# Altium schematic symbol library MCU_SiliconLabs.SchLib: 37 symbols
Pins are listed as number, name and electrical type; pins without a type are passive.

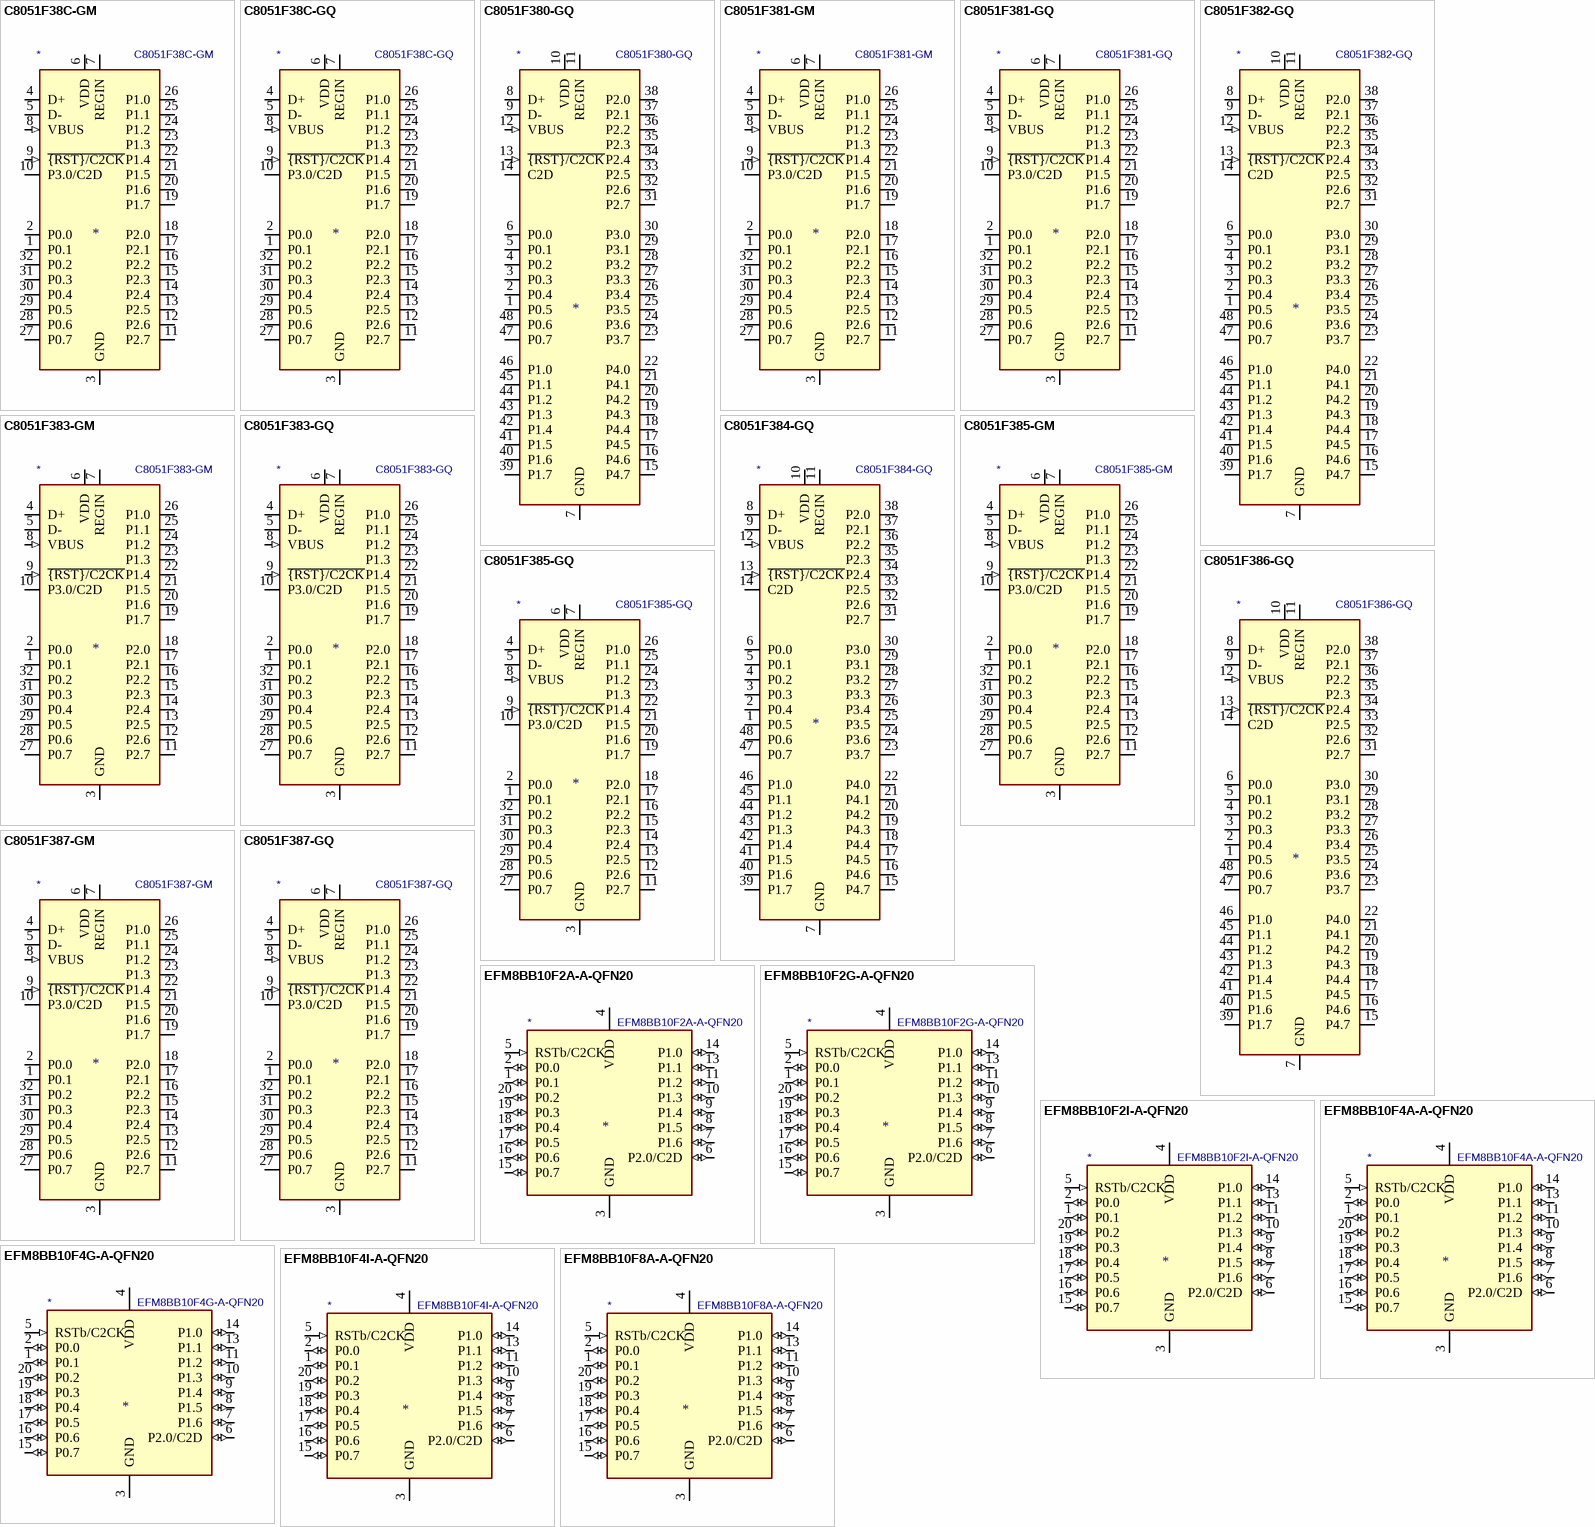
[diagram p0: symbols C8051F38C-GM to EFM8BB10F8A-A-QFN20]

## C8051F38C-GM
designator *  value C8051F38C-GM
ki_keywords: 8051 microcontroller PCA UART USB SPI I2C ADC QFN32; ki_description: Full Speed USB Flash MCU Family, 16k flash, 2304 ram, 25 IO, ADC, Temperature, VREF, QFN-32; ki_fp_filters: QFN*1EP*5x5mm*P0.5mm*; Footprint: Package_DFN_QFN:QFN-32-1EP_5x5mm_P0.5mm_EP3.3x3.3mm; Supplier: https://www.silabs.com/documents/public/data-sheets/C8051F38x.pdf
footprint QFN-32-1EP_5x5mm_P0.5mm_EP3.3x3.3mm
pins: 1 P0.1 (io), 2 P0.0 (io), 3 GND (power), 4 D+ (io), 5 D- (io), 6 VDD (power), 7 REGIN (power), 8 VBUS (in), 9 ~{{RST}/C2CK} (in), 10 P3.0/C2D (io), 11 P2.7 (io), 12 P2.6 (io), 13 P2.5 (io), 14 P2.4 (io), 15 P2.3 (io), 16 P2.2 (io), 17 P2.1 (io), 18 P2.0 (io), 19 P1.7 (io), 20 P1.6 (io), 21 P1.5 (io), 22 P1.4 (io), 23 P1.3 (io), 24 P1.2 (io), 25 P1.1 (io), 26 P1.0 (io), 27 P0.7 (io), 28 P0.6 (io), 29 P0.5 (io), 30 P0.4 (io), 31 P0.3 (io), 32 P0.2 (io), 33 GND hidden

## C8051F38C-GQ
designator *  value C8051F38C-GQ
ki_keywords: 8051 microcontroller PCA UART USB SPI I2C ADC LQFP32; ki_description: Full Speed USB Flash MCU Family, 16k flash, 2304 ram, 25 IO, ADC, Temperature, VREF, LQFP-32; ki_fp_filters: LQFP*7x7mm*P0.8mm*; Footprint: Package_QFP:LQFP-32_7x7mm_P0.8mm; Supplier: https://www.silabs.com/documents/public/data-sheets/C8051F38x.pdf
footprint LQFP-32_7x7mm_P0.8mm
pins: 1 P0.1 (io), 2 P0.0 (io), 3 GND (power), 4 D+ (io), 5 D- (io), 6 VDD (power), 7 REGIN (power), 8 VBUS (in), 9 ~{{RST}/C2CK} (in), 10 P3.0/C2D (io), 11 P2.7 (io), 12 P2.6 (io), 13 P2.5 (io), 14 P2.4 (io), 15 P2.3 (io), 16 P2.2 (io), 17 P2.1 (io), 18 P2.0 (io), 19 P1.7 (io), 20 P1.6 (io), 21 P1.5 (io), 22 P1.4 (io), 23 P1.3 (io), 24 P1.2 (io), 25 P1.1 (io), 26 P1.0 (io), 27 P0.7 (io), 28 P0.6 (io), 29 P0.5 (io), 30 P0.4 (io), 31 P0.3 (io), 32 P0.2 (io)

## C8051F380-GQ
designator *  value C8051F380-GQ
ki_keywords: 8051 microcontroller PCA UART USB SPI I2C ADC EMIF TQFP48; ki_description: Full Speed USB Flash MCU Family, 64k flash, 4352 ram, 40 IO, EMIF, ADC, Temperature, VREF, TQFP-48; ki_fp_filters: TQFP*7x7mm*P0.5mm*; Footprint: Package_QFP:TQFP-48_7x7mm_P0.5mm; Supplier: https://www.silabs.com/documents/public/data-sheets/C8051F38x.pdf
footprint TQFP-48_7x7mm_P0.5mm
pins: 1 P0.5 (io), 2 P0.4 (io), 3 P0.3 (io), 4 P0.2 (io), 5 P0.1 (io), 6 P0.0 (io), 7 GND (power), 8 D+ (io), 9 D- (io), 10 VDD (power), 11 REGIN (power), 12 VBUS (in), 13 ~{{RST}/C2CK} (in), 14 C2D (io), 15 P4.7 (io), 16 P4.6 (io), 17 P4.5 (io), 18 P4.4 (io), 19 P4.3 (io), 20 P4.2 (io), 21 P4.1 (io), 22 P4.0 (io), 23 P3.7 (io), 24 P3.6 (io), 25 P3.5 (io), 26 P3.4 (io), 27 P3.3 (io), 28 P3.2 (io), 29 P3.1 (io), 30 P3.0 (io), 31 P2.7 (io), 32 P2.6 (io), 33 P2.5 (io), 34 P2.4 (io), 35 P2.3 (io), 36 P2.2 (io), 37 P2.1 (io), 38 P2.0 (io), 39 P1.7 (io), 40 P1.6 (io), 41 P1.5 (io), 42 P1.4 (io), 43 P1.3 (io), 44 P1.2 (io), 45 P1.1 (io), 46 P1.0 (io), 47 P0.7 (io), 48 P0.6 (io)

## C8051F381-GM
designator *  value C8051F381-GM
ki_keywords: 8051 microcontroller PCA UART USB SPI I2C ADC QFN32; ki_description: Full Speed USB Flash MCU Family, 64k flash, 4352 ram, 25 IO, ADC, Temperature, VREF, QFN-32; ki_fp_filters: QFN*1EP*5x5mm*P0.5mm*; Footprint: Package_DFN_QFN:QFN-32-1EP_5x5mm_P0.5mm_EP3.3x3.3mm; Supplier: https://www.silabs.com/documents/public/data-sheets/C8051F38x.pdf
footprint QFN-32-1EP_5x5mm_P0.5mm_EP3.3x3.3mm
pins: 1 P0.1 (io), 2 P0.0 (io), 3 GND (power), 4 D+ (io), 5 D- (io), 6 VDD (power), 7 REGIN (power), 8 VBUS (in), 9 ~{{RST}/C2CK} (in), 10 P3.0/C2D (io), 11 P2.7 (io), 12 P2.6 (io), 13 P2.5 (io), 14 P2.4 (io), 15 P2.3 (io), 16 P2.2 (io), 17 P2.1 (io), 18 P2.0 (io), 19 P1.7 (io), 20 P1.6 (io), 21 P1.5 (io), 22 P1.4 (io), 23 P1.3 (io), 24 P1.2 (io), 25 P1.1 (io), 26 P1.0 (io), 27 P0.7 (io), 28 P0.6 (io), 29 P0.5 (io), 30 P0.4 (io), 31 P0.3 (io), 32 P0.2 (io), 33 GND hidden

## C8051F381-GQ
designator *  value C8051F381-GQ
ki_keywords: 8051 microcontroller PCA UART USB SPI I2C ADC LQFP32; ki_description: Full Speed USB Flash MCU Family, 64k flash, 4352 ram, 25 IO, ADC, Temperature, VREF, LQFP-32; ki_fp_filters: LQFP*7x7mm*P0.8mm*; Footprint: Package_QFP:LQFP-32_7x7mm_P0.8mm; Supplier: https://www.silabs.com/documents/public/data-sheets/C8051F38x.pdf
footprint LQFP-32_7x7mm_P0.8mm
pins: 1 P0.1 (io), 2 P0.0 (io), 3 GND (power), 4 D+ (io), 5 D- (io), 6 VDD (power), 7 REGIN (power), 8 VBUS (in), 9 ~{{RST}/C2CK} (in), 10 P3.0/C2D (io), 11 P2.7 (io), 12 P2.6 (io), 13 P2.5 (io), 14 P2.4 (io), 15 P2.3 (io), 16 P2.2 (io), 17 P2.1 (io), 18 P2.0 (io), 19 P1.7 (io), 20 P1.6 (io), 21 P1.5 (io), 22 P1.4 (io), 23 P1.3 (io), 24 P1.2 (io), 25 P1.1 (io), 26 P1.0 (io), 27 P0.7 (io), 28 P0.6 (io), 29 P0.5 (io), 30 P0.4 (io), 31 P0.3 (io), 32 P0.2 (io)

## C8051F382-GQ
designator *  value C8051F382-GQ
ki_keywords: 8051 microcontroller PCA UART USB SPI I2C ADC EMIF TQFP48; ki_description: Full Speed USB Flash MCU Family, 32k flash, 2304 ram, 40 IO, EMIF, ADC, Temperature, VREF, TQFP-48; ki_fp_filters: TQFP*7x7mm*P0.5mm*; Footprint: Package_QFP:TQFP-48_7x7mm_P0.5mm; Supplier: https://www.silabs.com/documents/public/data-sheets/C8051F38x.pdf
footprint TQFP-48_7x7mm_P0.5mm
pins: 1 P0.5 (io), 2 P0.4 (io), 3 P0.3 (io), 4 P0.2 (io), 5 P0.1 (io), 6 P0.0 (io), 7 GND (power), 8 D+ (io), 9 D- (io), 10 VDD (power), 11 REGIN (power), 12 VBUS (in), 13 ~{{RST}/C2CK} (in), 14 C2D (io), 15 P4.7 (io), 16 P4.6 (io), 17 P4.5 (io), 18 P4.4 (io), 19 P4.3 (io), 20 P4.2 (io), 21 P4.1 (io), 22 P4.0 (io), 23 P3.7 (io), 24 P3.6 (io), 25 P3.5 (io), 26 P3.4 (io), 27 P3.3 (io), 28 P3.2 (io), 29 P3.1 (io), 30 P3.0 (io), 31 P2.7 (io), 32 P2.6 (io), 33 P2.5 (io), 34 P2.4 (io), 35 P2.3 (io), 36 P2.2 (io), 37 P2.1 (io), 38 P2.0 (io), 39 P1.7 (io), 40 P1.6 (io), 41 P1.5 (io), 42 P1.4 (io), 43 P1.3 (io), 44 P1.2 (io), 45 P1.1 (io), 46 P1.0 (io), 47 P0.7 (io), 48 P0.6 (io)

## C8051F383-GM
designator *  value C8051F383-GM
ki_keywords: 8051 microcontroller PCA UART USB SPI I2C ADC QFN32; ki_description: Full Speed USB Flash MCU Family, 32k flash, 2304 ram, 25 IO, ADC, Temperature, VREF, QFN-32; ki_fp_filters: QFN*1EP*5x5mm*P0.5mm*; Footprint: Package_DFN_QFN:QFN-32-1EP_5x5mm_P0.5mm_EP3.3x3.3mm; Supplier: https://www.silabs.com/documents/public/data-sheets/C8051F38x.pdf
footprint QFN-32-1EP_5x5mm_P0.5mm_EP3.3x3.3mm
pins: 1 P0.1 (io), 2 P0.0 (io), 3 GND (power), 4 D+ (io), 5 D- (io), 6 VDD (power), 7 REGIN (power), 8 VBUS (in), 9 ~{{RST}/C2CK} (in), 10 P3.0/C2D (io), 11 P2.7 (io), 12 P2.6 (io), 13 P2.5 (io), 14 P2.4 (io), 15 P2.3 (io), 16 P2.2 (io), 17 P2.1 (io), 18 P2.0 (io), 19 P1.7 (io), 20 P1.6 (io), 21 P1.5 (io), 22 P1.4 (io), 23 P1.3 (io), 24 P1.2 (io), 25 P1.1 (io), 26 P1.0 (io), 27 P0.7 (io), 28 P0.6 (io), 29 P0.5 (io), 30 P0.4 (io), 31 P0.3 (io), 32 P0.2 (io), 33 GND hidden

## C8051F383-GQ
designator *  value C8051F383-GQ
ki_keywords: 8051 microcontroller PCA UART USB SPI I2C ADC LQFP32; ki_description: Full Speed USB Flash MCU Family, 32k flash, 2304 ram, 25 IO, ADC, Temperature, VREF, LQFP-32; ki_fp_filters: LQFP*7x7mm*P0.8mm*; Footprint: Package_QFP:LQFP-32_7x7mm_P0.8mm; Supplier: https://www.silabs.com/documents/public/data-sheets/C8051F38x.pdf
footprint LQFP-32_7x7mm_P0.8mm
pins: 1 P0.1 (io), 2 P0.0 (io), 3 GND (power), 4 D+ (io), 5 D- (io), 6 VDD (power), 7 REGIN (power), 8 VBUS (in), 9 ~{{RST}/C2CK} (in), 10 P3.0/C2D (io), 11 P2.7 (io), 12 P2.6 (io), 13 P2.5 (io), 14 P2.4 (io), 15 P2.3 (io), 16 P2.2 (io), 17 P2.1 (io), 18 P2.0 (io), 19 P1.7 (io), 20 P1.6 (io), 21 P1.5 (io), 22 P1.4 (io), 23 P1.3 (io), 24 P1.2 (io), 25 P1.1 (io), 26 P1.0 (io), 27 P0.7 (io), 28 P0.6 (io), 29 P0.5 (io), 30 P0.4 (io), 31 P0.3 (io), 32 P0.2 (io)

## C8051F384-GQ
designator *  value C8051F384-GQ
ki_keywords: 8051 microcontroller PCA UART USB SPI I2C EMIF TQFP48; ki_description: Full Speed USB Flash MCU Family, 64k flash, 4352 ram, 40 IO, EMIF, TQFP-48; ki_fp_filters: TQFP*7x7mm*P0.5mm*; Footprint: Package_QFP:TQFP-48_7x7mm_P0.5mm; Supplier: https://www.silabs.com/documents/public/data-sheets/C8051F38x.pdf
footprint TQFP-48_7x7mm_P0.5mm
pins: 1 P0.5 (io), 2 P0.4 (io), 3 P0.3 (io), 4 P0.2 (io), 5 P0.1 (io), 6 P0.0 (io), 7 GND (power), 8 D+ (io), 9 D- (io), 10 VDD (power), 11 REGIN (power), 12 VBUS (in), 13 ~{{RST}/C2CK} (in), 14 C2D (io), 15 P4.7 (io), 16 P4.6 (io), 17 P4.5 (io), 18 P4.4 (io), 19 P4.3 (io), 20 P4.2 (io), 21 P4.1 (io), 22 P4.0 (io), 23 P3.7 (io), 24 P3.6 (io), 25 P3.5 (io), 26 P3.4 (io), 27 P3.3 (io), 28 P3.2 (io), 29 P3.1 (io), 30 P3.0 (io), 31 P2.7 (io), 32 P2.6 (io), 33 P2.5 (io), 34 P2.4 (io), 35 P2.3 (io), 36 P2.2 (io), 37 P2.1 (io), 38 P2.0 (io), 39 P1.7 (io), 40 P1.6 (io), 41 P1.5 (io), 42 P1.4 (io), 43 P1.3 (io), 44 P1.2 (io), 45 P1.1 (io), 46 P1.0 (io), 47 P0.7 (io), 48 P0.6 (io)

## C8051F385-GM
designator *  value C8051F385-GM
ki_keywords: 8051 microcontroller PCA UART USB SPI I2C QFN32; ki_description: Full Speed USB Flash MCU Family, 64k flash, 4352 ram, 25 IO, QFN-32; ki_fp_filters: QFN*1EP*5x5mm*P0.5mm*; Footprint: Package_DFN_QFN:QFN-32-1EP_5x5mm_P0.5mm_EP3.3x3.3mm; Supplier: https://www.silabs.com/documents/public/data-sheets/C8051F38x.pdf
footprint QFN-32-1EP_5x5mm_P0.5mm_EP3.3x3.3mm
pins: 1 P0.1 (io), 2 P0.0 (io), 3 GND (power), 4 D+ (io), 5 D- (io), 6 VDD (power), 7 REGIN (power), 8 VBUS (in), 9 ~{{RST}/C2CK} (in), 10 P3.0/C2D (io), 11 P2.7 (io), 12 P2.6 (io), 13 P2.5 (io), 14 P2.4 (io), 15 P2.3 (io), 16 P2.2 (io), 17 P2.1 (io), 18 P2.0 (io), 19 P1.7 (io), 20 P1.6 (io), 21 P1.5 (io), 22 P1.4 (io), 23 P1.3 (io), 24 P1.2 (io), 25 P1.1 (io), 26 P1.0 (io), 27 P0.7 (io), 28 P0.6 (io), 29 P0.5 (io), 30 P0.4 (io), 31 P0.3 (io), 32 P0.2 (io), 33 GND hidden

## C8051F385-GQ
designator *  value C8051F385-GQ
ki_keywords: 8051 microcontroller PCA UART USB SPI I2C LQFP32; ki_description: Full Speed USB Flash MCU Family, 64k flash, 4352 ram, 25 IO, LQFP-32; ki_fp_filters: LQFP*7x7mm*P0.8mm*; Footprint: Package_QFP:LQFP-32_7x7mm_P0.8mm; Supplier: https://www.silabs.com/documents/public/data-sheets/C8051F38x.pdf
footprint LQFP-32_7x7mm_P0.8mm
pins: 1 P0.1 (io), 2 P0.0 (io), 3 GND (power), 4 D+ (io), 5 D- (io), 6 VDD (power), 7 REGIN (power), 8 VBUS (in), 9 ~{{RST}/C2CK} (in), 10 P3.0/C2D (io), 11 P2.7 (io), 12 P2.6 (io), 13 P2.5 (io), 14 P2.4 (io), 15 P2.3 (io), 16 P2.2 (io), 17 P2.1 (io), 18 P2.0 (io), 19 P1.7 (io), 20 P1.6 (io), 21 P1.5 (io), 22 P1.4 (io), 23 P1.3 (io), 24 P1.2 (io), 25 P1.1 (io), 26 P1.0 (io), 27 P0.7 (io), 28 P0.6 (io), 29 P0.5 (io), 30 P0.4 (io), 31 P0.3 (io), 32 P0.2 (io)

## C8051F386-GQ
designator *  value C8051F386-GQ
ki_keywords: 8051 microcontroller PCA UART USB SPI I2C EMIF TQFP48; ki_description: Full Speed USB Flash MCU Family, 32k flash, 2304 ram, 40 IO, EMIF, TQFP-48; ki_fp_filters: TQFP*7x7mm*P0.5mm*; Footprint: Package_QFP:TQFP-48_7x7mm_P0.5mm; Supplier: https://www.silabs.com/documents/public/data-sheets/C8051F38x.pdf
footprint TQFP-48_7x7mm_P0.5mm
pins: 1 P0.5 (io), 2 P0.4 (io), 3 P0.3 (io), 4 P0.2 (io), 5 P0.1 (io), 6 P0.0 (io), 7 GND (power), 8 D+ (io), 9 D- (io), 10 VDD (power), 11 REGIN (power), 12 VBUS (in), 13 ~{{RST}/C2CK} (in), 14 C2D (io), 15 P4.7 (io), 16 P4.6 (io), 17 P4.5 (io), 18 P4.4 (io), 19 P4.3 (io), 20 P4.2 (io), 21 P4.1 (io), 22 P4.0 (io), 23 P3.7 (io), 24 P3.6 (io), 25 P3.5 (io), 26 P3.4 (io), 27 P3.3 (io), 28 P3.2 (io), 29 P3.1 (io), 30 P3.0 (io), 31 P2.7 (io), 32 P2.6 (io), 33 P2.5 (io), 34 P2.4 (io), 35 P2.3 (io), 36 P2.2 (io), 37 P2.1 (io), 38 P2.0 (io), 39 P1.7 (io), 40 P1.6 (io), 41 P1.5 (io), 42 P1.4 (io), 43 P1.3 (io), 44 P1.2 (io), 45 P1.1 (io), 46 P1.0 (io), 47 P0.7 (io), 48 P0.6 (io)

## C8051F387-GM
designator *  value C8051F387-GM
ki_keywords: 8051 microcontroller PCA UART USB SPI I2C QFN32; ki_description: Full Speed USB Flash MCU Family, 32k flash, 2304 ram, 25 IO, QFN-32; ki_fp_filters: QFN*1EP*5x5mm*P0.5mm*; Footprint: Package_DFN_QFN:QFN-32-1EP_5x5mm_P0.5mm_EP3.3x3.3mm; Supplier: https://www.silabs.com/documents/public/data-sheets/C8051F38x.pdf
footprint QFN-32-1EP_5x5mm_P0.5mm_EP3.3x3.3mm
pins: 1 P0.1 (io), 2 P0.0 (io), 3 GND (power), 4 D+ (io), 5 D- (io), 6 VDD (power), 7 REGIN (power), 8 VBUS (in), 9 ~{{RST}/C2CK} (in), 10 P3.0/C2D (io), 11 P2.7 (io), 12 P2.6 (io), 13 P2.5 (io), 14 P2.4 (io), 15 P2.3 (io), 16 P2.2 (io), 17 P2.1 (io), 18 P2.0 (io), 19 P1.7 (io), 20 P1.6 (io), 21 P1.5 (io), 22 P1.4 (io), 23 P1.3 (io), 24 P1.2 (io), 25 P1.1 (io), 26 P1.0 (io), 27 P0.7 (io), 28 P0.6 (io), 29 P0.5 (io), 30 P0.4 (io), 31 P0.3 (io), 32 P0.2 (io), 33 GND hidden

## C8051F387-GQ
designator *  value C8051F387-GQ
ki_keywords: 8051 microcontroller PCA UART USB SPI I2C LQFP32; ki_description: Full Speed USB Flash MCU Family, 32k flash, 2304 ram, 25 IO, LQFP-32; ki_fp_filters: LQFP*7x7mm*P0.8mm*; Footprint: Package_QFP:LQFP-32_7x7mm_P0.8mm; Supplier: https://www.silabs.com/documents/public/data-sheets/C8051F38x.pdf
footprint LQFP-32_7x7mm_P0.8mm
pins: 1 P0.1 (io), 2 P0.0 (io), 3 GND (power), 4 D+ (io), 5 D- (io), 6 VDD (power), 7 REGIN (power), 8 VBUS (in), 9 ~{{RST}/C2CK} (in), 10 P3.0/C2D (io), 11 P2.7 (io), 12 P2.6 (io), 13 P2.5 (io), 14 P2.4 (io), 15 P2.3 (io), 16 P2.2 (io), 17 P2.1 (io), 18 P2.0 (io), 19 P1.7 (io), 20 P1.6 (io), 21 P1.5 (io), 22 P1.4 (io), 23 P1.3 (io), 24 P1.2 (io), 25 P1.1 (io), 26 P1.0 (io), 27 P0.7 (io), 28 P0.6 (io), 29 P0.5 (io), 30 P0.4 (io), 31 P0.3 (io), 32 P0.2 (io)

## EFM8BB10F2A-A-QFN20
designator *  value EFM8BB10F2A-A-QFN20
ki_keywords: 8051 microcontroller PWM UART SPI I2C ADC QFN20 automotive; ki_description: 8051-compatible microcontroller, 25 MHz, 2.2 to 3.6V, 2K flash, 256B RAM, -40 to +125 C (automotive), QFN20; ki_fp_filters: SiliconLabs*QFN*1EP*3x3mm*P0.5mm*; Footprint: Package_DFN_QFN:SiliconLabs_QFN-20-1EP_3x3mm_P0.5mm_EP1.8x1.8mm; Supplier: https://www.silabs.com/documents/public/data-sheets/efm8bb1-datasheet.pdf
footprint SiliconLabs_QFN-20-1EP_3x3mm_P0.5mm_EP1.8x1.8mm
pins: 1 P0.1 (io), 2 P0.0 (io), 3 GND (power), 4 VDD (power), 5 RSTb/C2CK (in), 6 P2.0/C2D (io), 7 P1.6 (io), 8 P1.5 (io), 9 P1.4 (io), 10 P1.3 (io), 11 P1.2 (io), 12 GND hidden, 13 P1.1 (io), 14 P1.0 (io), 15 P0.7 (io), 16 P0.6 (io), 17 P0.5 (io), 18 P0.4 (io), 19 P0.3 (io), 20 P0.2 (io), 21 GND hidden

## EFM8BB10F2G-A-QFN20
designator *  value EFM8BB10F2G-A-QFN20
ki_keywords: 8051 microcontroller PWM UART SPI I2C ADC QFN20; ki_description: 8051-compatible microcontroller, 25 MHz, 2.2 to 3.6V, 2K flash, 256B RAM, -40 to +85 C, QFN20; ki_fp_filters: SiliconLabs*QFN*1EP*3x3mm*P0.5mm*; Footprint: Package_DFN_QFN:SiliconLabs_QFN-20-1EP_3x3mm_P0.5mm_EP1.8x1.8mm; Supplier: https://www.silabs.com/documents/public/data-sheets/efm8bb1-datasheet.pdf
footprint SiliconLabs_QFN-20-1EP_3x3mm_P0.5mm_EP1.8x1.8mm
pins: 1 P0.1 (io), 2 P0.0 (io), 3 GND (power), 4 VDD (power), 5 RSTb/C2CK (in), 6 P2.0/C2D (io), 7 P1.6 (io), 8 P1.5 (io), 9 P1.4 (io), 10 P1.3 (io), 11 P1.2 (io), 12 GND hidden, 13 P1.1 (io), 14 P1.0 (io), 15 P0.7 (io), 16 P0.6 (io), 17 P0.5 (io), 18 P0.4 (io), 19 P0.3 (io), 20 P0.2 (io), 21 GND hidden

## EFM8BB10F2I-A-QFN20
designator *  value EFM8BB10F2I-A-QFN20
ki_keywords: 8051 microcontroller PWM UART SPI I2C ADC QFN20; ki_description: 8051-compatible microcontroller, 25 MHz, 2.2 to 3.6V, 2K flash, 256B RAM, -40 to +125 C, QFN20; ki_fp_filters: SiliconLabs*QFN*1EP*3x3mm*P0.5mm*; Footprint: Package_DFN_QFN:SiliconLabs_QFN-20-1EP_3x3mm_P0.5mm_EP1.8x1.8mm; Supplier: https://www.silabs.com/documents/public/data-sheets/efm8bb1-datasheet.pdf
footprint SiliconLabs_QFN-20-1EP_3x3mm_P0.5mm_EP1.8x1.8mm
pins: 1 P0.1 (io), 2 P0.0 (io), 3 GND (power), 4 VDD (power), 5 RSTb/C2CK (in), 6 P2.0/C2D (io), 7 P1.6 (io), 8 P1.5 (io), 9 P1.4 (io), 10 P1.3 (io), 11 P1.2 (io), 12 GND hidden, 13 P1.1 (io), 14 P1.0 (io), 15 P0.7 (io), 16 P0.6 (io), 17 P0.5 (io), 18 P0.4 (io), 19 P0.3 (io), 20 P0.2 (io), 21 GND hidden

## EFM8BB10F4A-A-QFN20
designator *  value EFM8BB10F4A-A-QFN20
ki_keywords: 8051 microcontroller PWM UART SPI I2C ADC QFN20 automotive; ki_description: 8051-compatible microcontroller, 25 MHz, 2.2 to 3.6V, 4K flash, 512B RAM, -40 to +125 C (automotive), QFN20; ki_fp_filters: SiliconLabs*QFN*1EP*3x3mm*P0.5mm*; Footprint: Package_DFN_QFN:SiliconLabs_QFN-20-1EP_3x3mm_P0.5mm_EP1.8x1.8mm; Supplier: https://www.silabs.com/documents/public/data-sheets/efm8bb1-datasheet.pdf
footprint SiliconLabs_QFN-20-1EP_3x3mm_P0.5mm_EP1.8x1.8mm
pins: 1 P0.1 (io), 2 P0.0 (io), 3 GND (power), 4 VDD (power), 5 RSTb/C2CK (in), 6 P2.0/C2D (io), 7 P1.6 (io), 8 P1.5 (io), 9 P1.4 (io), 10 P1.3 (io), 11 P1.2 (io), 12 GND hidden, 13 P1.1 (io), 14 P1.0 (io), 15 P0.7 (io), 16 P0.6 (io), 17 P0.5 (io), 18 P0.4 (io), 19 P0.3 (io), 20 P0.2 (io), 21 GND hidden

## EFM8BB10F4G-A-QFN20
designator *  value EFM8BB10F4G-A-QFN20
ki_keywords: 8051 microcontroller PWM UART SPI I2C ADC QFN20; ki_description: 8051-compatible microcontroller, 25 MHz, 2.2 to 3.6V, 4K flash, 512B RAM, -40 to +85 C, QFN20; ki_fp_filters: SiliconLabs*QFN*1EP*3x3mm*P0.5mm*; Footprint: Package_DFN_QFN:SiliconLabs_QFN-20-1EP_3x3mm_P0.5mm_EP1.8x1.8mm; Supplier: https://www.silabs.com/documents/public/data-sheets/efm8bb1-datasheet.pdf
footprint SiliconLabs_QFN-20-1EP_3x3mm_P0.5mm_EP1.8x1.8mm
pins: 1 P0.1 (io), 2 P0.0 (io), 3 GND (power), 4 VDD (power), 5 RSTb/C2CK (in), 6 P2.0/C2D (io), 7 P1.6 (io), 8 P1.5 (io), 9 P1.4 (io), 10 P1.3 (io), 11 P1.2 (io), 12 GND hidden, 13 P1.1 (io), 14 P1.0 (io), 15 P0.7 (io), 16 P0.6 (io), 17 P0.5 (io), 18 P0.4 (io), 19 P0.3 (io), 20 P0.2 (io), 21 GND hidden

## EFM8BB10F4I-A-QFN20
designator *  value EFM8BB10F4I-A-QFN20
ki_keywords: 8051 microcontroller PWM UART SPI I2C ADC QFN20; ki_description: 8051-compatible microcontroller, 25 MHz, 2.2 to 3.6V, 4K flash, 512B RAM, -40 to +125 C, QFN20; ki_fp_filters: SiliconLabs*QFN*1EP*3x3mm*P0.5mm*; Footprint: Package_DFN_QFN:SiliconLabs_QFN-20-1EP_3x3mm_P0.5mm_EP1.8x1.8mm; Supplier: https://www.silabs.com/documents/public/data-sheets/efm8bb1-datasheet.pdf
footprint SiliconLabs_QFN-20-1EP_3x3mm_P0.5mm_EP1.8x1.8mm
pins: 1 P0.1 (io), 2 P0.0 (io), 3 GND (power), 4 VDD (power), 5 RSTb/C2CK (in), 6 P2.0/C2D (io), 7 P1.6 (io), 8 P1.5 (io), 9 P1.4 (io), 10 P1.3 (io), 11 P1.2 (io), 12 GND hidden, 13 P1.1 (io), 14 P1.0 (io), 15 P0.7 (io), 16 P0.6 (io), 17 P0.5 (io), 18 P0.4 (io), 19 P0.3 (io), 20 P0.2 (io), 21 GND hidden

## EFM8BB10F8A-A-QFN20
designator *  value EFM8BB10F8A-A-QFN20
ki_keywords: 8051 microcontroller PWM UART SPI I2C ADC QFN20 automotive; ki_description: 8051-compatible microcontroller, 25 MHz, 2.2 to 3.6V, 8K flash, 512B RAM, -40 to +125 C (automotive), QFN20; ki_fp_filters: SiliconLabs*QFN*1EP*3x3mm*P0.5mm*; Footprint: Package_DFN_QFN:SiliconLabs_QFN-20-1EP_3x3mm_P0.5mm_EP1.8x1.8mm; Supplier: https://www.silabs.com/documents/public/data-sheets/efm8bb1-datasheet.pdf
footprint SiliconLabs_QFN-20-1EP_3x3mm_P0.5mm_EP1.8x1.8mm
pins: 1 P0.1 (io), 2 P0.0 (io), 3 GND (power), 4 VDD (power), 5 RSTb/C2CK (in), 6 P2.0/C2D (io), 7 P1.6 (io), 8 P1.5 (io), 9 P1.4 (io), 10 P1.3 (io), 11 P1.2 (io), 12 GND hidden, 13 P1.1 (io), 14 P1.0 (io), 15 P0.7 (io), 16 P0.6 (io), 17 P0.5 (io), 18 P0.4 (io), 19 P0.3 (io), 20 P0.2 (io), 21 GND hidden

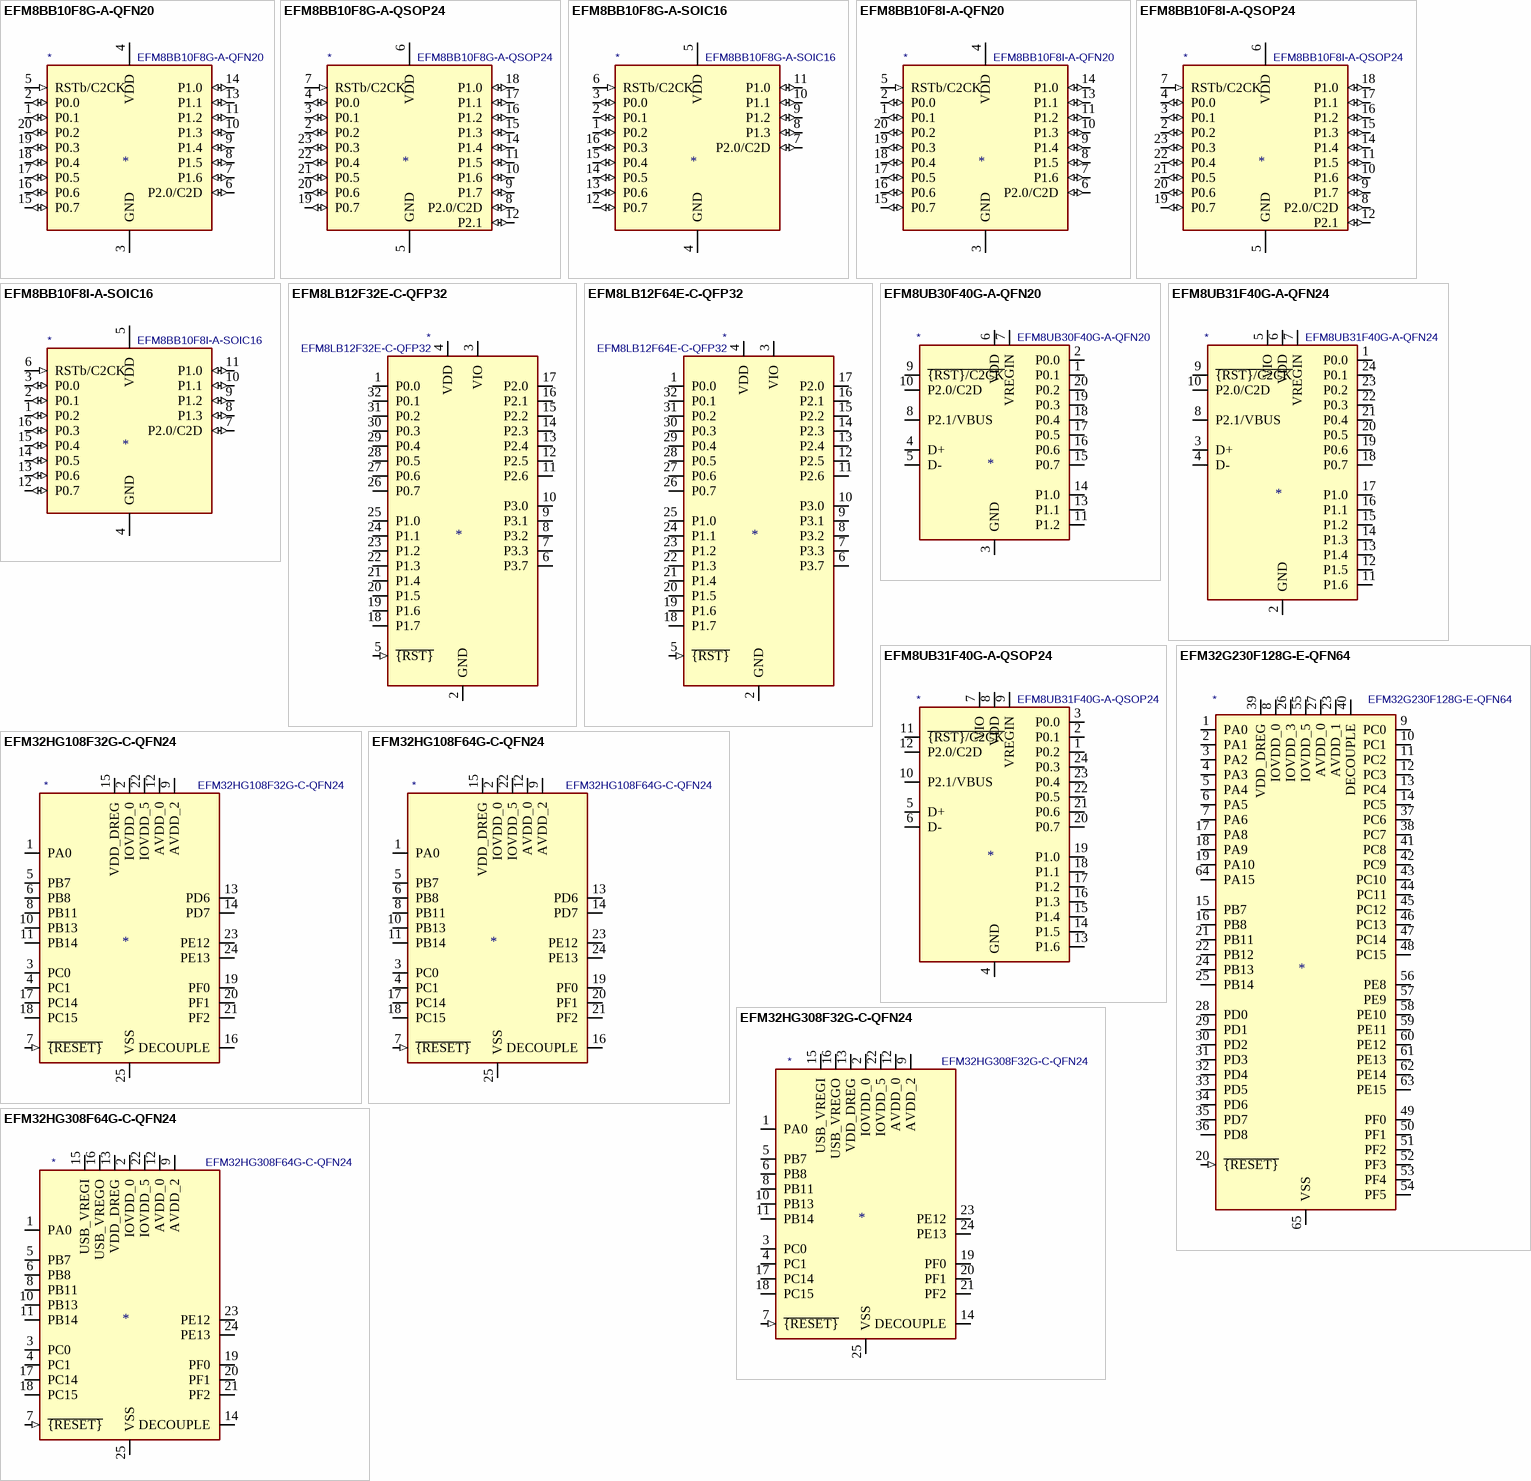
[diagram p1: symbols EFM8BB10F8G-A-QFN20 to EFM32HG308F64G-C-QFN24]

## EFM8BB10F8G-A-QFN20
designator *  value EFM8BB10F8G-A-QFN20
ki_keywords: 8051 microcontroller PWM UART SPI I2C ADC QFN20; ki_description: 8051-compatible microcontroller, 25 MHz, 2.2 to 3.6V, 8K flash, 512B RAM, -40 to +85 C, QFN20; ki_fp_filters: SiliconLabs*QFN*1EP*3x3mm*P0.5mm*; Footprint: Package_DFN_QFN:SiliconLabs_QFN-20-1EP_3x3mm_P0.5mm_EP1.8x1.8mm; Supplier: https://www.silabs.com/documents/public/data-sheets/efm8bb1-datasheet.pdf
footprint SiliconLabs_QFN-20-1EP_3x3mm_P0.5mm_EP1.8x1.8mm
pins: 1 P0.1 (io), 2 P0.0 (io), 3 GND (power), 4 VDD (power), 5 RSTb/C2CK (in), 6 P2.0/C2D (io), 7 P1.6 (io), 8 P1.5 (io), 9 P1.4 (io), 10 P1.3 (io), 11 P1.2 (io), 12 GND hidden, 13 P1.1 (io), 14 P1.0 (io), 15 P0.7 (io), 16 P0.6 (io), 17 P0.5 (io), 18 P0.4 (io), 19 P0.3 (io), 20 P0.2 (io), 21 GND hidden

## EFM8BB10F8G-A-QSOP24
designator *  value EFM8BB10F8G-A-QSOP24
ki_keywords: 8051 microcontroller PWM UART SPI I2C ADC QSOP24; ki_description: 8051-compatible microcontroller, 25 MHz, 2.2 to 3.6V, 8K flash, 512B RAM, -40 to +85 C, QSOP24; ki_fp_filters: QSOP*P0.635mm*; Footprint: Package_SO:QSOP-24_3.9x8.7mm_P0.635mm; Supplier: https://www.silabs.com/documents/public/data-sheets/efm8bb1-datasheet.pdf
footprint QSOP-24_3.9x8.7mm_P0.635mm
pins: 1 NC (in) hidden, 2 P0.2 (io), 3 P0.1 (io), 4 P0.0 (io), 5 GND (power), 6 VDD (power), 7 RSTb/C2CK (in), 8 P2.0/C2D (io), 9 P1.7 (io), 10 P1.6 (io), 11 P1.5 (io), 12 P2.1 (io), 13 NC (in) hidden, 14 P1.4 (io), 15 P1.3 (io), 16 P1.2 (io), 17 P1.1 (io), 18 P1.0 (io), 19 P0.7 (io), 20 P0.6 (io), 21 P0.5 (io), 22 P0.4 (io), 23 P0.3 (io), 24 NC (in) hidden

## EFM8BB10F8G-A-SOIC16
designator *  value EFM8BB10F8G-A-SOIC16
ki_keywords: 8051 microcontroller PWM UART SPI I2C ADC SOIC16; ki_description: 8051-compatible microcontroller, 25 MHz, 2.2 to 3.6V, 8K flash, 512B RAM, -40 to +85 C, SOIC16; ki_fp_filters: SOIC*3.9x9.9mm*P1.27mm*; Footprint: Package_SO:SOIC-16_3.9x9.9mm_P1.27mm; Supplier: https://www.silabs.com/documents/public/data-sheets/efm8bb1-datasheet.pdf
footprint SOIC-16_3.9x9.9mm_P1.27mm
pins: 1 P0.2 (io), 2 P0.1 (io), 3 P0.0 (io), 4 GND (power), 5 VDD (power), 6 RSTb/C2CK (in), 7 P2.0/C2D (io), 8 P1.3 (io), 9 P1.2 (io), 10 P1.1 (io), 11 P1.0 (io), 12 P0.7 (io), 13 P0.6 (io), 14 P0.5 (io), 15 P0.4 (io), 16 P0.3 (io)

## EFM8BB10F8I-A-QFN20
designator *  value EFM8BB10F8I-A-QFN20
ki_keywords: 8051 microcontroller PWM UART SPI I2C ADC QFN20; ki_description: 8051-compatible microcontroller, 25 MHz, 2.2 to 3.6V, 8K flash, 512B RAM, -40 to +125 C, QFN20; ki_fp_filters: SiliconLabs*QFN*1EP*3x3mm*P0.5mm*; Footprint: Package_DFN_QFN:SiliconLabs_QFN-20-1EP_3x3mm_P0.5mm_EP1.8x1.8mm; Supplier: https://www.silabs.com/documents/public/data-sheets/efm8bb1-datasheet.pdf
footprint SiliconLabs_QFN-20-1EP_3x3mm_P0.5mm_EP1.8x1.8mm
pins: 1 P0.1 (io), 2 P0.0 (io), 3 GND (power), 4 VDD (power), 5 RSTb/C2CK (in), 6 P2.0/C2D (io), 7 P1.6 (io), 8 P1.5 (io), 9 P1.4 (io), 10 P1.3 (io), 11 P1.2 (io), 12 GND hidden, 13 P1.1 (io), 14 P1.0 (io), 15 P0.7 (io), 16 P0.6 (io), 17 P0.5 (io), 18 P0.4 (io), 19 P0.3 (io), 20 P0.2 (io), 21 GND hidden

## EFM8BB10F8I-A-QSOP24
designator *  value EFM8BB10F8I-A-QSOP24
ki_keywords: 8051 microcontroller PWM UART SPI I2C ADC QSOP24; ki_description: 8051-compatible microcontroller, 25 MHz, 2.2 to 3.6V, 8K flash, 512B RAM, -40 to +125 C, QSOP24; ki_fp_filters: QSOP*P0.635mm*; Footprint: Package_SO:QSOP-24_3.9x8.7mm_P0.635mm; Supplier: https://www.silabs.com/documents/public/data-sheets/efm8bb1-datasheet.pdf
footprint QSOP-24_3.9x8.7mm_P0.635mm
pins: 1 NC (in) hidden, 2 P0.2 (io), 3 P0.1 (io), 4 P0.0 (io), 5 GND (power), 6 VDD (power), 7 RSTb/C2CK (in), 8 P2.0/C2D (io), 9 P1.7 (io), 10 P1.6 (io), 11 P1.5 (io), 12 P2.1 (io), 13 NC (in) hidden, 14 P1.4 (io), 15 P1.3 (io), 16 P1.2 (io), 17 P1.1 (io), 18 P1.0 (io), 19 P0.7 (io), 20 P0.6 (io), 21 P0.5 (io), 22 P0.4 (io), 23 P0.3 (io), 24 NC (in) hidden

## EFM8BB10F8I-A-SOIC16
designator *  value EFM8BB10F8I-A-SOIC16
ki_keywords: 8051 microcontroller PWM UART SPI I2C ADC SOIC16; ki_description: 8051-compatible microcontroller, 25 MHz, 2.2 to 3.6V, 8K flash, 512B RAM, -40 to +125 C, SOIC16; ki_fp_filters: SOIC*3.9x9.9mm*P1.27mm*; Footprint: Package_SO:SOIC-16_3.9x9.9mm_P1.27mm; Supplier: https://www.silabs.com/documents/public/data-sheets/efm8bb1-datasheet.pdf
footprint SOIC-16_3.9x9.9mm_P1.27mm
pins: 1 P0.2 (io), 2 P0.1 (io), 3 P0.0 (io), 4 GND (power), 5 VDD (power), 6 RSTb/C2CK (in), 7 P2.0/C2D (io), 8 P1.3 (io), 9 P1.2 (io), 10 P1.1 (io), 11 P1.0 (io), 12 P0.7 (io), 13 P0.6 (io), 14 P0.5 (io), 15 P0.4 (io), 16 P0.3 (io)

## EFM8LB12F32E-C-QFP32
designator *  value EFM8LB12F32E-C-QFP32
ki_keywords: 8051 microcontroller; ki_description: 8051-compatible microcontroller, 72 MHz, 2.2 to 3.6V, 32K flash, 2304B RAM, -40 to +105 C, QFP-32; ki_fp_filters: LQFP*7x7mm*P0.8mm*; Footprint: Package_QFP:LQFP-32_7x7mm_P0.8mm; Supplier: https://www.silabs.com/documents/public/data-sheets/efm8lb1-datasheet.pdf
footprint LQFP-32_7x7mm_P0.8mm
pins: 1 P0.0 (io), 2 GND (power), 3 VIO (power), 4 VDD (power), 5 ~{{RST}} (in), 6 P3.7 (io), 7 P3.3 (io), 8 P3.2 (io), 9 P3.1 (io), 10 P3.0 (io), 11 P2.6 (io), 12 P2.5 (io), 13 P2.4 (io), 14 P2.3 (io), 15 P2.2 (io), 16 P2.1 (io), 17 P2.0 (io), 18 P1.7 (io), 19 P1.6 (io), 20 P1.5 (io), 21 P1.4 (io), 22 P1.3 (io), 23 P1.2 (io), 24 P1.1 (io), 25 P1.0 (io), 26 P0.7 (io), 27 P0.6 (io), 28 P0.5 (io), 29 P0.4 (io), 30 P0.3 (io), 31 P0.2 (io), 32 P0.1 (io)

## EFM8LB12F64E-C-QFP32
designator *  value EFM8LB12F64E-C-QFP32
ki_keywords: 8051 microcontroller; ki_description: 8051-compatible microcontroller, 72 MHz, 2.2 to 3.6V, 64K flash, 2304B RAM, -40 to +105 C, QFP-32; ki_fp_filters: LQFP*7x7mm*P0.8mm*; Footprint: Package_QFP:LQFP-32_7x7mm_P0.8mm; Supplier: https://www.silabs.com/documents/public/data-sheets/efm8lb1-datasheet.pdf
footprint LQFP-32_7x7mm_P0.8mm
pins: 1 P0.0 (io), 2 GND (power), 3 VIO (power), 4 VDD (power), 5 ~{{RST}} (in), 6 P3.7 (io), 7 P3.3 (io), 8 P3.2 (io), 9 P3.1 (io), 10 P3.0 (io), 11 P2.6 (io), 12 P2.5 (io), 13 P2.4 (io), 14 P2.3 (io), 15 P2.2 (io), 16 P2.1 (io), 17 P2.0 (io), 18 P1.7 (io), 19 P1.6 (io), 20 P1.5 (io), 21 P1.4 (io), 22 P1.3 (io), 23 P1.2 (io), 24 P1.1 (io), 25 P1.0 (io), 26 P0.7 (io), 27 P0.6 (io), 28 P0.5 (io), 29 P0.4 (io), 30 P0.3 (io), 31 P0.2 (io), 32 P0.1 (io)

## EFM8UB30F40G-A-QFN20
designator *  value EFM8UB30F40G-A-QFN20
ki_keywords: 8051 microcontroller PWM UART SPI I2C USB LDOREG ADC QFN20; ki_description: 8051-compatible microcontroller, 48 MHz, 2.3 to 5.5V, 40K flash, 3.25K RAM, -40 to +85 C, QFN-20; ki_fp_filters: SiliconLabs*QFN*1EP*3x3mm*P0.5mm*; Footprint: Package_DFN_QFN:SiliconLabs_QFN-20-1EP_3x3mm_P0.5mm_EP1.8x1.8mm; Supplier: https://www.silabs.com/documents/public/data-sheets/efm8ub3-datasheet.pdf
footprint SiliconLabs_QFN-20-1EP_3x3mm_P0.5mm_EP1.8x1.8mm
pins: 1 P0.1 (io), 2 P0.0 (io), 3 GND (power), 4 D+ (io), 5 D- (io), 6 VDD (power), 7 VREGIN (power), 8 P2.1/VBUS (io), 9 ~{{RST}/C2CK} (io), 10 P2.0/C2D (io), 11 P1.2 (io), 12 GND hidden, 13 P1.1 (io), 14 P1.0 (io), 15 P0.7 (io), 16 P0.6 (io), 17 P0.5 (io), 18 P0.4 (io), 19 P0.3 (io), 20 P0.2 (io), 21 GND hidden

## EFM8UB31F40G-A-QFN24
designator *  value EFM8UB31F40G-A-QFN24
ki_keywords: 8051 microcontroller PWM UART SPI I2C USB LDOREG ADC QFN24; ki_description: 8051-compatible microcontroller, 48 MHz, 2.3 to 5.5V, 40K flash, 3.25K RAM, -40 to +85 C, QFN-24; ki_fp_filters: QFN*1EP*4x4mm*P0.5mm*; Footprint: Package_DFN_QFN:QFN-24-1EP_4x4mm_P0.5mm_EP2.6x2.6mm; Supplier: https://www.silabs.com/documents/public/data-sheets/efm8ub3-datasheet.pdf
footprint QFN-24-1EP_4x4mm_P0.5mm_EP2.6x2.6mm
pins: 1 P0.0 (io), 2 GND (power), 3 D+ (io), 4 D- (io), 5 VIO (power), 6 VDD (power), 7 VREGIN (power), 8 P2.1/VBUS (io), 9 ~{{RST}/C2CK} (io), 10 P2.0/C2D (io), 11 P1.6 (io), 12 P1.5 (io), 13 P1.4 (io), 14 P1.3 (io), 15 P1.2 (io), 16 P1.1 (io), 17 P1.0 (io), 18 P0.7 (io), 19 P0.6 (io), 20 P0.5 (io), 21 P0.4 (io), 22 P0.3 (io), 23 P0.2 (io), 24 P0.1 (io), 25 GND hidden

## EFM8UB31F40G-A-QSOP24
designator *  value EFM8UB31F40G-A-QSOP24
ki_keywords: 8051 microcontroller PWM UART SPI I2C USB LDOREG ADC QSOP24; ki_description: 8051-compatible microcontroller, 48 MHz, 2.3 to 5.5V, 40K flash, 3.25K RAM, -40 to +85 C, QSOP-24; ki_fp_filters: QSOP*3.9x8.7mm*P0.635mm*; Footprint: Package_SO:QSOP-24_3.9x8.7mm_P0.635mm; Supplier: https://www.silabs.com/documents/public/data-sheets/efm8ub3-datasheet.pdf
footprint QSOP-24_3.9x8.7mm_P0.635mm
pins: 1 P0.2 (io), 2 P0.1 (io), 3 P0.0 (io), 4 GND (power), 5 D+ (io), 6 D- (io), 7 VIO (power), 8 VDD (power), 9 VREGIN (power), 10 P2.1/VBUS (io), 11 ~{{RST}/C2CK} (io), 12 P2.0/C2D (io), 13 P1.6 (io), 14 P1.5 (io), 15 P1.4 (io), 16 P1.3 (io), 17 P1.2 (io), 18 P1.1 (io), 19 P1.0 (io), 20 P0.7 (io), 21 P0.6 (io), 22 P0.5 (io), 23 P0.4 (io), 24 P0.3 (io)

## EFM32G230F128G-E-QFN64
designator *  value EFM32G230F128G-E-QFN64
ki_keywords: MCU microcontroller silicon labs siliconlabs silabs EFM32 gecko; ki_description: 32-bit ARM Cortex-M3 microcontroller, 128 kB flash, 16 kB x 8 RAM, Silicon Labs - Gecko, QFN-64; ki_fp_filters: QFN*1EP*9x9mm*P0.5mm*; Footprint: Package_DFN_QFN:QFN-64-1EP_9x9mm_P0.5mm_EP7.3x7.3mm; Supplier: https://www.silabs.com/documents/public/data-sheets/efm32g-datasheet.pdf
footprint QFN-64-1EP_9x9mm_P0.5mm_EP7.3x7.3mm
pins: 1 PA0 (io), 2 PA1 (io), 3 PA2 (io), 4 PA3 (io), 5 PA4 (io), 6 PA5 (io), 7 PA6 (io), 8 IOVDD_0 (power), 9 PC0 (io), 10 PC1 (io), 11 PC2 (io), 12 PC3 (io), 13 PC4 (io), 14 PC5 (io), 15 PB7 (io), 16 PB8 (io), 17 PA8 (io), 18 PA9 (io), 19 PA10 (io), 20 ~{{RESET}} (in), 21 PB11 (io), 22 PB12 (io), 23 AVDD_1 (power), 24 PB13 (io), 25 PB14 (io), 26 IOVDD_3 (power), 27 AVDD_0 (power), 28 PD0 (io), 29 PD1 (io), 30 PD2 (io), 31 PD3 (io), 32 PD4 (io), 33 PD5 (io), 34 PD6 (io), 35 PD7 (io), 36 PD8 (io), 37 PC6 (io), 38 PC7 (io), 39 VDD_DREG (power), 40 DECOUPLE, 41 PC8 (io), 42 PC9 (io), 43 PC10 (io), 44 PC11 (io), 45 PC12 (io), 46 PC13 (io), 47 PC14 (io), 48 PC15 (io), 49 PF0 (io), 50 PF1 (io), 51 PF2 (io), 52 PF3 (io), 53 PF4 (io), 54 PF5 (io), 55 IOVDD_5 (power), 56 PE8 (io), 57 PE9 (io), 58 PE10 (io), 59 PE11 (io), 60 PE12 (io), 61 PE13 (io), 62 PE14 (io), 63 PE15 (io), 64 PA15 (io), 65 VSS (power)

## EFM32HG108F32G-C-QFN24
designator *  value EFM32HG108F32G-C-QFN24
ki_keywords: MCU microcontroller silicon labs siliconlabs silabs EFM32 happy gecko; ki_description: 32-bit ARM Cortex-M0 microcontroller, 32 kB flash, 4 kB  RAM, Silicon Labs - Happy Gecko, QFN-24; ki_fp_filters: QFN*1EP*5x5mm*P0.65mm*; Footprint: Package_DFN_QFN:QFN-24-1EP_5x5mm_P0.65mm_EP3.6x3.6mm; Supplier: https://www.silabs.com/documents/public/data-sheets/efm32hg-datasheet.pdf
footprint QFN-24-1EP_5x5mm_P0.65mm_EP3.6x3.6mm
pins: 1 PA0 (io), 2 IOVDD_0 (power), 3 PC0 (io), 4 PC1 (io), 5 PB7 (io), 6 PB8 (io), 7 ~{{RESET}} (in), 8 PB11 (io), 9 AVDD_2 (power), 10 PB13 (io), 11 PB14 (io), 12 AVDD_0 (power), 13 PD6 (io), 14 PD7 (io), 15 VDD_DREG (power), 16 DECOUPLE, 17 PC14 (io), 18 PC15 (io), 19 PF0 (io), 20 PF1 (io), 21 PF2 (io), 22 IOVDD_5 (power), 23 PE12 (io), 24 PE13 (io), 25 VSS (power)

## EFM32HG108F64G-C-QFN24
designator *  value EFM32HG108F64G-C-QFN24
ki_keywords: MCU microcontroller silicon labs siliconlabs silabs EFM32 happy gecko; ki_description: 32-bit ARM Cortex-M0 microcontroller, 64 kB flash, 4 kB  RAM, Silicon Labs - Happy Gecko, QFN-24; ki_fp_filters: QFN*1EP*5x5mm*P0.65mm*; Footprint: Package_DFN_QFN:QFN-24-1EP_5x5mm_P0.65mm_EP3.6x3.6mm; Supplier: https://www.silabs.com/documents/public/data-sheets/efm32hg-datasheet.pdf
footprint QFN-24-1EP_5x5mm_P0.65mm_EP3.6x3.6mm
pins: 1 PA0 (io), 2 IOVDD_0 (power), 3 PC0 (io), 4 PC1 (io), 5 PB7 (io), 6 PB8 (io), 7 ~{{RESET}} (in), 8 PB11 (io), 9 AVDD_2 (power), 10 PB13 (io), 11 PB14 (io), 12 AVDD_0 (power), 13 PD6 (io), 14 PD7 (io), 15 VDD_DREG (power), 16 DECOUPLE, 17 PC14 (io), 18 PC15 (io), 19 PF0 (io), 20 PF1 (io), 21 PF2 (io), 22 IOVDD_5 (power), 23 PE12 (io), 24 PE13 (io), 25 VSS (power)

## EFM32HG308F32G-C-QFN24
designator *  value EFM32HG308F32G-C-QFN24
ki_keywords: MCU microcontroller silicon labs siliconlabs silabs EFM32 happy gecko; ki_description: 32-bit ARM Cortex-M0 microcontroller, 32 kB flash, 4 kB  RAM, Silicon Labs - Happy Gecko, QFN-24; ki_fp_filters: QFN*1EP*5x5mm*P0.65mm*; Footprint: Package_DFN_QFN:QFN-24-1EP_5x5mm_P0.65mm_EP3.6x3.6mm; Supplier: https://www.silabs.com/documents/public/data-sheets/efm32hg-datasheet.pdf
footprint QFN-24-1EP_5x5mm_P0.65mm_EP3.6x3.6mm
pins: 1 PA0 (io), 2 IOVDD_0 (power), 3 PC0 (io), 4 PC1 (io), 5 PB7 (io), 6 PB8 (io), 7 ~{{RESET}} (in), 8 PB11 (io), 9 AVDD_2 (power), 10 PB13 (io), 11 PB14 (io), 12 AVDD_0 (power), 13 VDD_DREG (power), 14 DECOUPLE, 15 USB_VREGI (power), 16 USB_VREGO (power), 17 PC14 (io), 18 PC15 (io), 19 PF0 (io), 20 PF1 (io), 21 PF2 (io), 22 IOVDD_5 (power), 23 PE12 (io), 24 PE13 (io), 25 VSS (power)

## EFM32HG308F64G-C-QFN24
designator *  value EFM32HG308F64G-C-QFN24
ki_keywords: MCU microcontroller silicon labs siliconlabs silabs EFM32 happy gecko; ki_description: 32-bit ARM Cortex-M0 microcontroller, 64 kB flash, 4 kB  RAM, Silicon Labs - Happy Gecko, QFN-24; ki_fp_filters: QFN*1EP*5x5mm*P0.65mm*; Footprint: Package_DFN_QFN:QFN-24-1EP_5x5mm_P0.65mm_EP3.6x3.6mm; Supplier: https://www.silabs.com/documents/public/data-sheets/efm32hg-datasheet.pdf
footprint QFN-24-1EP_5x5mm_P0.65mm_EP3.6x3.6mm
pins: 1 PA0 (io), 2 IOVDD_0 (power), 3 PC0 (io), 4 PC1 (io), 5 PB7 (io), 6 PB8 (io), 7 ~{{RESET}} (in), 8 PB11 (io), 9 AVDD_2 (power), 10 PB13 (io), 11 PB14 (io), 12 AVDD_0 (power), 13 VDD_DREG (power), 14 DECOUPLE, 15 USB_VREGI (power), 16 USB_VREGO (power), 17 PC14 (io), 18 PC15 (io), 19 PF0 (io), 20 PF1 (io), 21 PF2 (io), 22 IOVDD_5 (power), 23 PE12 (io), 24 PE13 (io), 25 VSS (power)